# EAGLE library part RFID_SENSOR (library pie)
RFID Sensor AliExpress <https://www.aliexpress.com/item/High-Quality-MFRC-522-RC522-RFID-Reader-RF-IC-Card-Inductive-Sensor-Module-For-Arduino-Module/32657638702.html?spm=2114.01010208.3.1.ePefNj&ws_ab_test=searchweb201556_0%2Csearchweb201602_5_10057_10056_10065_10068_10055_10067_10054_10069_10059_10058_418_10073_10017_10070_10060_10061_10052_10062_10053_10050_10051%2Csearchweb201603_7&btsid=cb39fcb9-9ace-4eec-a43a-83949f44e6b2>
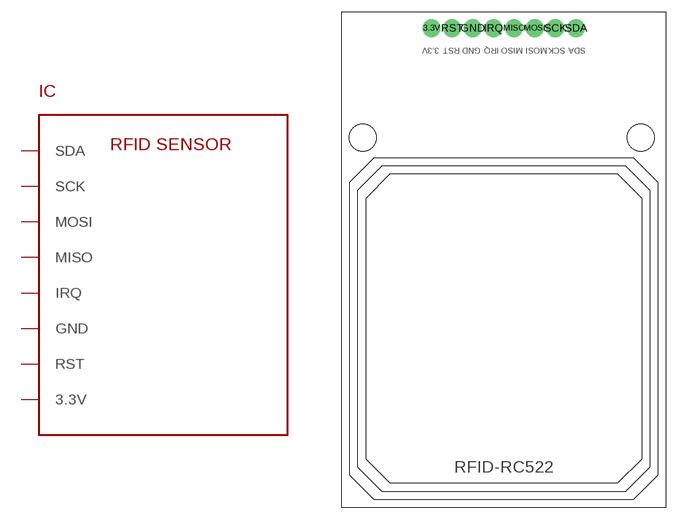
[diagram p38: symbol with the pads of RFID_SENSOR; footprint RFID_SENSOR]

Designator prefix IC

## RFID_SENSOR (DISTRIBUTOR: AliExpress; DISTRIBUTOR_PART_NUMBER: 32657638702; MANUFACTURER: Binling Gooding; NOTES: https://www.aliexpress.com/item/High-Quality-MFRC-522-RC522-RFID-Reader-RF-IC-Card-Inductive-Sensor-Module-For-Arduino-Module/32657638702.html?spm=2114.01010208.3.1.ePefNj&ws_ab_test=searchweb201556_0%2Csearchweb201602_5_10057_10056_10065_10068_10055_10067_10054_10069_10059_10058_418_10073_10017_10070_10060_10061_10052_10062_10053_10050_10051%2Csearchweb201603_7&btsid=cb39fcb9-9ace-4eec-a43a-83949f44e6b2; PACKAGE: RFID_SENSOR; VALUE: RFID_SENSOR)  [RFID_SENSOR]
3.3V  3.3V
GND  GND
IRQ  IRQ
MISO  MISO
MOSI  MOSI
RST  RST
SCK  SCK
SDA  SDA

## Footprint RFID_SENSOR (pad centres in mm)
RFID Sensor
drill 1 pad 2.184: 3.3V 11.1,59; GND 16.18,59; IRQ 18.72,59; MISO 21.26,59; MOSI 23.8,59; RST 13.64,59; SCK 26.34,59; SDA 28.88,59
hole 3.302 at 2.642,45.529
hole 3.302 at 36.855,45.529